# EAGLE library part PINHEADER_2X12_G_2,54_0 (library DRA818)
Pin Header
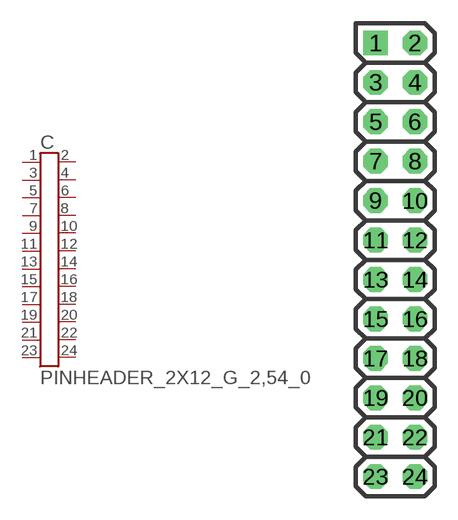
[diagram p3: symbol with the pads of STIFTLEISTE_2X12_G_2,54_0; footprint STIFTLEISTE_2X12_G_2,54_0]

Designator prefix C

## PINHEADER_2X12_G_2,54_0  [STIFTLEISTE_2X12_G_2,54_0]
1  1  pas
2  2  pas
3  3  pas
4  4  pas
5  5  pas
6  6  pas
7  7  pas
8  8  pas
9  9  pas
10  10  pas
11  11  pas
12  12  pas
13  13  pas
14  14  pas
15  15  pas
16  16  pas
17  17  pas
18  18  pas
19  19  pas
20  20  pas
21  21  pas
22  22  pas
23  23  pas
24  24  pas

## Footprint STIFTLEISTE_2X12_G_2,54_0 (pad centres in mm)
drill 1 pad 1.6 square: 1 0,0
drill 1 pad 1.6 octagon: 2 2.54,0; 3 0,-2.54; 4 2.54,-2.54; 5 0,-5.08; 6 2.54,-5.08; 7 0,-7.62; 8 2.54,-7.62; 9 0,-10.16; 10 2.54,-10.16; 11 0,-12.7; 12 2.54,-12.7; 13 0,-15.24; 14 2.54,-15.24; 15 0,-17.78; 16 2.54,-17.78; 17 0,-20.32; 18 2.54,-20.32; 19 0,-22.86; 20 2.54,-22.86; 21 0,-25.4; 22 2.54,-25.4; 23 0,-27.94; 24 2.54,-27.94